# Altium schematic symbol library UC3842B.SchLib: 1 symbol
Pins are listed as number, name and electrical type; pins without a type are passive.

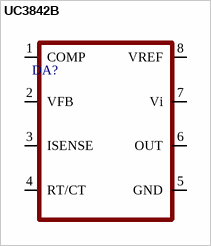
[diagram p0: symbol UC3842B]

## UC3842B
designator DA?
pins: 1 COMP, 2 VFB, 3 ISENSE, 4 RT/CT, 5 GND, 6 OUT, 7 Vi, 8 VREF